# Altium schematic symbol library CRCW0402301KFKED.SchLib: 1 symbol
Pins are listed as number, name and electrical type; pins without a type are passive.

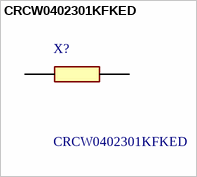
[diagram p0: symbol CRCW0402301KFKED]

## CRCW0402301KFKED
designator X?
Vishay CRCW Series Thick Film Surface Mount Resistor 0402 Case 301k +/-1% 0.063W +/-100ppm/C; Geometry.Height: 0.4mm; Manufacturer_Name: Vishay; Manufacturer_Part_Number: CRCW0402301KFKED; Mouser Part Number: 71-CRCW0402-301K-E3; Mouser Price/Stock: https://www.mouser.co.uk/ProductDetail/Vishay-Dale/CRCW0402301KFKED/?qs=TNtMkGKFKOwT423%2FwrBwyQ%3D%3D; Arrow Part Number: CRCW0402301KFKED; Arrow Price/Stock: https://www.arrow.com/en/products/crcw0402301kfked/vishay; Datasheet Link: http://www.vishay.com/docs/20035/dcrcwe3.pdf
footprint RESC1005X40N
pins: 1, 2